# EAGLE library part SN74LVC2G14DBVT (library SN74LVC2G14 - Schmitt Trigger, inverting)
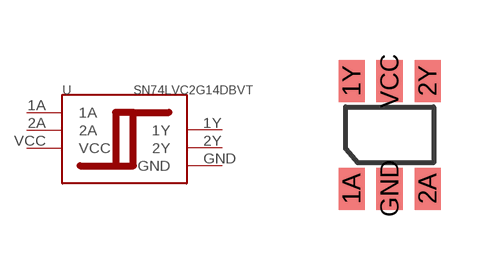
[diagram p0: symbol with the pads of SOT23-6; footprint SOT23-6]

Designator prefix -

## SN74LVC2G14DBVT  [SOT23-6]
1A  1A  in
1Y  1Y  out
2A  2A  in
2Y  2Y  out
GND  GND
VCC  VCC  pwr

## Footprint SOT23-6 (pad centres in mm)
smd 0.65 x 1.05: 1A -0.95,-1.35; 1Y -0.95,1.35; 2A 0.95,-1.35; 2Y 0.95,1.35; GND 0,-1.35; VCC 0,1.35